# Altium footprint library PLC M3 PCB.PcbLib: 27 footprints (part 1 of 2)
Each footprint in its own frame and in the unit in brackets; x right, y up, seen from the top. Pads: shape width x height; smd on the part's side, far side on the other; paste and mask are expansions set on the pad; w line width, h text height; cw(c..) or ccw(c..) is an arc to the next point about the centre after c.
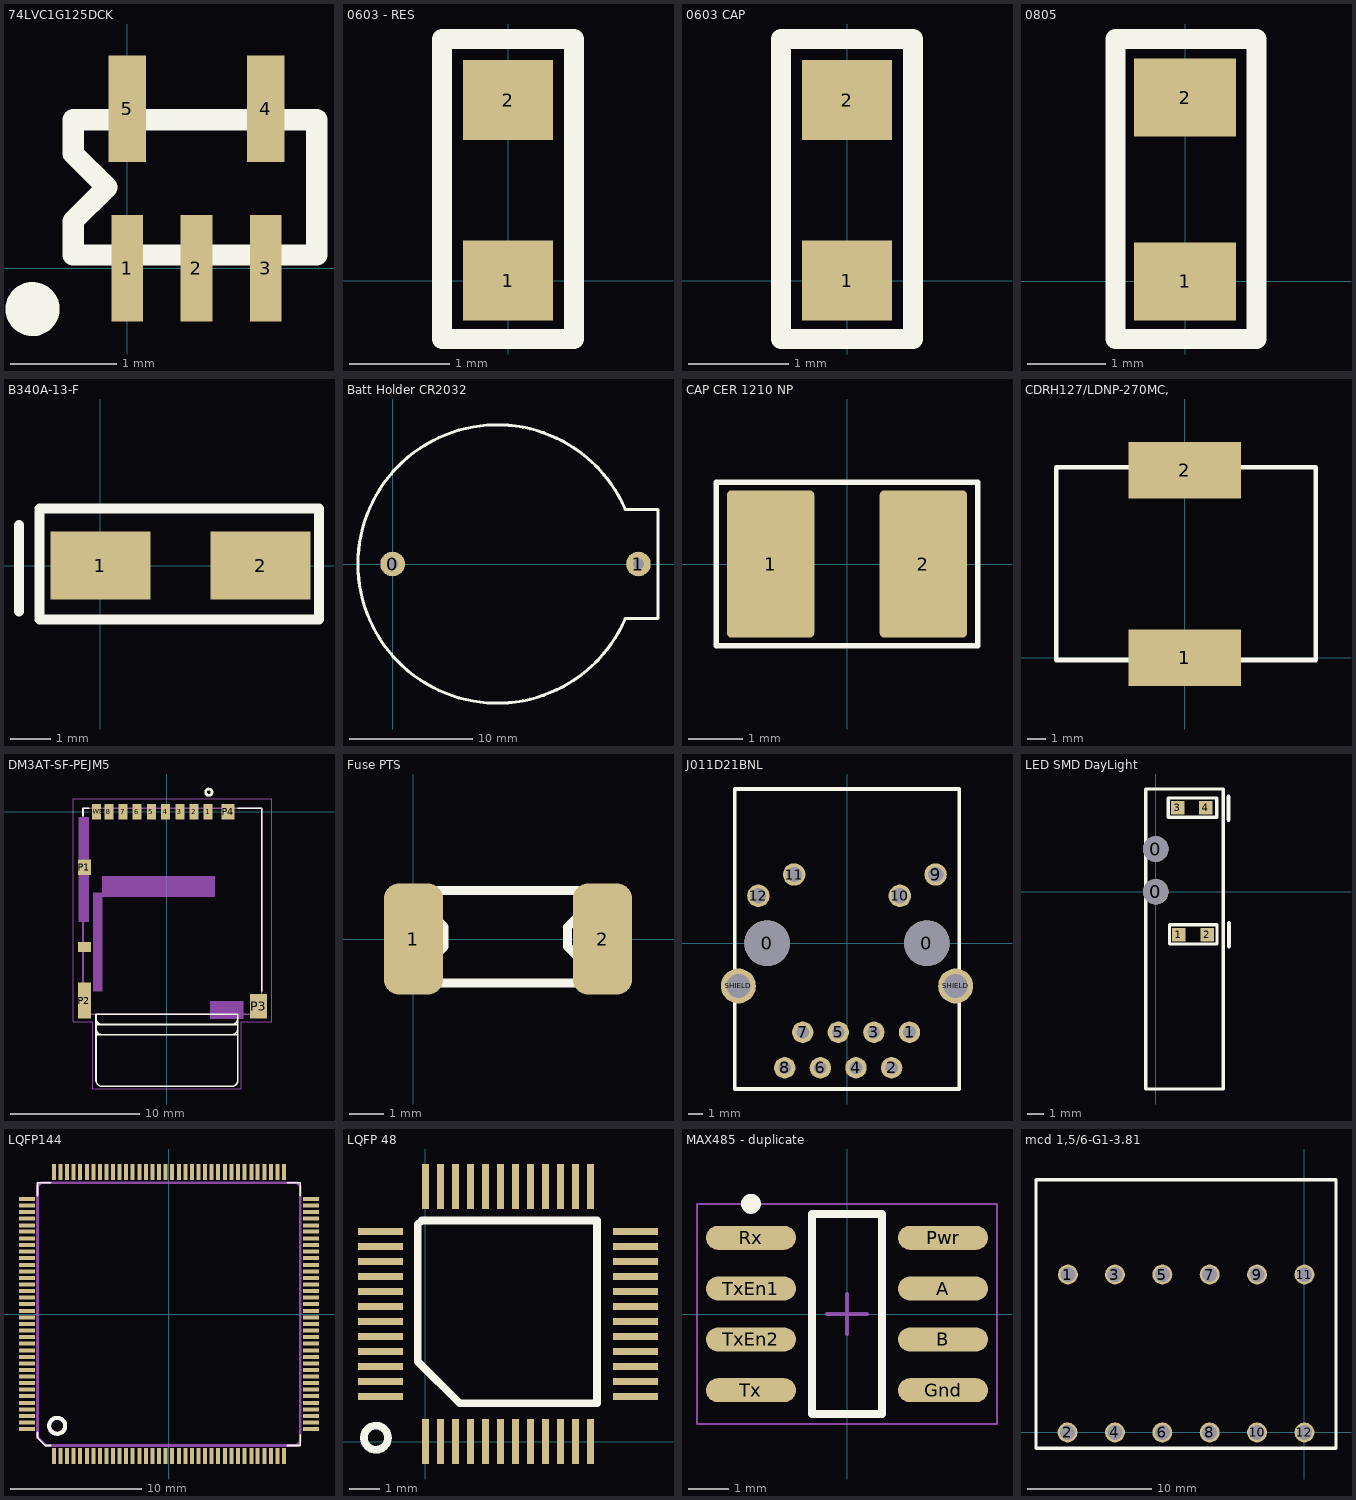
[diagram p0: the footprints below, top view; thin cyan lines are the x and y axes]

## 74LVC1G125DCK [mm]
pads (5):
  rect 0.3x1 smd mask+0: 1(0,0) 2(0.65,0) 3(1.3,0)
  rect 0.35x1 smd mask+0: 4(1.3,1.5) 5(0,1.5)
Top Overlay:
  circle w0.254: c-0.889,-0.381 r0.127
  lines w0.2: -0.508,0.127 1.778,0.127 1.778,1.397 -0.508,1.397 -0.508,1.079 -0.191,0.762 -0.508,0.445 -0.508,0.127
3D body "74LVC1G125DCKRG4.STEP": height 1.1, standoff 0, extent -0.365,-0.288 1.635,1.812

## 0603 - RES [mm]
height 1
pads (2):
  rect 0.9x0.8 smd mask+0.102: 1(0,0) 2(0,1.803)
Top Overlay:
  lines w0.2: -0.66,-0.584 -0.66,2.413 0.66,2.413 0.66,-0.584 -0.66,-0.584
3D body "RT0603FRE0710KL.STEP": height 0.55, standoff 0, extent -0.4,0.089 0.4,1.689

## 0603 CAP [mm]
height 1
pads (2):
  rect 0.9x0.8 smd mask+0.102: 1(0,0) 2(0,1.803)
Top Overlay:
  lines w0.2: -0.66,-0.584 -0.66,2.413 0.66,2.413 0.66,-0.584 -0.66,-0.584
3D body "GRM188R71E104KA01D.STEP": height 0.9, standoff 0, extent -0.4,0.089 0.4,1.689

## 0805 [mm]
height 1
pads (2):
  rect 1.3x1 smd: 1(0,0) 2(0,2.35)
Top Overlay:
  lines w0.254: -0.889,-0.737 -0.889,3.099 0.914,3.099 0.914,-0.737 -0.889,-0.737
3D body "BLM21PG220SN1D.STEP": height 1.05, standoff 0, extent -0.625,0.143 0.625,2.143

## B340A-13-F [mm]
height 2
pads (2):
  rect 2.5x1.7 smd: 1(0,0) 2(4,0)
Top Overlay:
  lines w0.254: -2.032,-1.143 -2.032,1.016 ; -1.524,-1.346 -1.524,1.422 5.461,1.422 5.461,-1.346 -1.524,-1.346
3D body "B340A-13-F.STEP": height 2.62, standoff 0, extent -0.538,-1.28 4.602,1.28

## Batt Holder CR2032 [mm]
height 5
pads (2):
  round 2 hole 0.9: 0(0,0) 1(20,0)
Top Overlay:
  lines w0.254: 18.923,-4.445 cw(c8.509,0) 18.923,4.445 21.59,4.445 21.59,-4.445 18.923,-4.445
3D body "CH224-2032LF.step": height 8.7, standoff -3.7, extent -2.541,-11.048 21.759,11.048

## CAP CER 1210 NP [mm] "Capacitor Ceramical SMD 0603 Non-Polar"
pads (2):
  rrect10% 1.6x2.7 smd mask+0.1: 1(-1.4,0) 2(1.4,0)
Top Overlay:
  lines w0.1: -2.4,-1.5 -2.4,1.5 2.4,1.5 2.4,-1.5 -2.4,-1.5
3D body "CAPC-1210-T2.2-BN.stp": height 2.2, standoff 0, extent -1.75,-1.35 1.75,1.35

## CDRH127/LDNP-270MC, [mm]
pads (2):
  rect 6x3 smd: 1(0,0) 2(0,10)
Top Overlay:
  lines w0.254: -6.858,-0.127 -6.858,10.16 6.985,10.16 6.985,-0.127 -6.858,-0.127
3D body "CDRH127LDNP220MC.STEP": height 8, standoff 0, extent -6,-1.047 6,10.953

## DM3AT-SF-PEJM5 [mm]
height 2
pads (14):
  rect 0.7x1.2 smd: 1(3.2,0) 2(2.1,0) 3(1,0) 4(-0.1,0) 5(-1.2,0) 6(-2.3,0) 7(-3.4,0) 8(-4.5,0) SWB(-5.45,0)
  rect 1x1.2 smd: P1(-6.4,-4.3) P4(4.75,0)
  rect 1x2.8 smd: P2(-6.4,-14.65)
  rect 1.3x1.9 smd: P3(7.1,-15.1)
  rect 1x0.8 smd: SWA(-6.4,-10.5)
Top Overlay:
  circle w0.2: c3.25,1.5 r0.25
  lines w0.127: -6.5,-0.3 -6.5,0.25 -6.05,0.25 ; 5.5,0.25 7.35,0.25 7.35,-13.9 ; -5.5,-17.3 -5,-17.3 ; -5.5,-17.3 -5.5,-16.8 ; -5.5,-17.3 -5.5,-20.8 ccw(c-5,-20.8) -5,-21.3 5,-21.3 ccw(c5,-20.8) 5.5,-20.8 5.5,-17.3 ; -5.5,-16.8 ccw(c-5,-16.8) -5,-17.3 ; -5.5,-16.8 -5.5,-16.5 ; -5.5,-16.5 -5,-16.5 ; -5.5,-16.5 -5.5,-16 ; -5.5,-16 ccw(c-5,-16) -5,-16.5 ; -5.5,-16 -5.5,-15.7 5.5,-15.7 5.5,-16 ; -5,-17.3 5,-17.3 ; -5,-16.5 5,-16.5 ; 5,-17.3 ccw(c5,-16.8) 5.5,-16.8 ; 5,-17.3 5.5,-17.3 ; 5,-16.5 ccw(c5,-16) 5.5,-16 ; 5,-16.5 5.5,-16.5 ; 5.5,-17.3 5.5,-16.8 ; 5.5,-16.8 5.5,-16.5 ; 5.5,-16.5 5.5,-16
Mechanical 1:
  region: -6.825,-0.45 -6.05,-0.45 -6.05,-3.714 -6.825,-3.714
  region: -6.817,-4.9 -6.05,-4.9 -6.05,-8.521 -6.817,-8.521
  region: -5.715,-6.3 -5,-6.3 -5,-13.937 -5.715,-13.937
  region: -5.008,-5 3.7,-5 3.7,-6.611 -5.008,-6.611
  region: 3.355,-14.7 5.9,-14.7 5.9,-16.072 3.355,-16.072
  lines w0.127: -6.5,-15.7 7.35,-15.7 7.35,0.25 -6.5,0.25 -6.5,-15.7
  text "PCB Edge" at -4.76,-15.783 h1.88
Mechanical 4:
  lines w0.05: -7.25,-16.3 -5.75,-16.3 -5.75,-21.5 5.75,-21.5 5.75,-16.3 8.125,-16.3 8.125,1 -7.25,1 -7.25,-16.3
3D body "DM3AT-SF-PEJM5--3DModel-STEP-1254794.STEP": height 1.68, standoff 0, extent -6.484,-16.203 7.366,-0.053

## Fuse PTS [mm]
pads (2):
  rrect50% 1.7x3.2 smd: 1(0,0) 2(5.45,0)
Top Overlay:
  lines w0.254: 0.508,-1.27 0.508,-0.603 0.889,-0.222 0.889,0.349 0.508,0.73 0.508,1.397 4.826,1.397 4.826,0.73 4.445,0.349 4.445,-0.222 4.826,-0.603 4.826,-1.27 0.508,-1.27
3D body "MF-MSMF030-2.STEP": height 0.85, standoff 0, extent 0.392,-1.62 4.942,1.62

## J011D21BNL [mm] "Ehernet Port J011D21BNL by YAGEO"
pads (16):
  round 3.25 hole 3.25 paste-2539.97 mask+0: 0(-5.7,0) 0(5.7,0)
  round 1.524 hole 0.9: 1(4.46,-6.35) 2(3.18,-8.89) 3(1.92,-6.35) 4(0.64,-8.89) 5(-0.62,-6.35) 6(-1.9,-8.89) 7(-3.16,-6.35) 8(-4.44,-8.89)
  round 1.6 hole 1.1: 9(6.32,4.9) 10(3.77,3.38) 11(-3.77,4.9) 12(-6.32,3.38)
  round 2.5 hole 1.7: SHIELD(-7.75,-3.05) SHIELD(7.75,-3.05)
Top Overlay:
  lines w0.254: -8,-10.4 8,-10.4 8,11 -8,11 -8,-10.4
3D body "J0011D21BNL.STEP": height 15.82, standoff -3.77, extent -10.7,-10.75 10.682,10.833

## LED SMD DayLight [mm]
pads (6):
  round 1.52 hole 1.52 paste+0 mask+0: 0(0,0) 0(0,2.54)
  rect 0.8x0.8 smd: 1(1.372,-2.54) 2(3.048,-2.54) 3(1.295,4.978) 4(2.972,4.978)
Top Overlay:
  lines w0.2: -0.6,1.905 -0.6,6.1 4,6.1 4,-11.7 -0.6,-11.7 -0.6,2.54 ; 0.737,4.42 3.607,4.42 3.607,5.563 0.737,5.563 0.737,4.42 ; 0.813,-3.099 3.632,-3.099 3.632,-1.956 0.813,-1.956 0.813,-3.099
  lines w0.254: 4.318,4.267 4.318,5.639 ; 4.343,-3.226 4.343,-1.854

## LQFP144 [mil] "LQFP144"
pads (144):
  rect 12x48 smd: 1(-344.49,-425.2) 2(-324.8,-425.2) 3(-305.12,-425.2) 4(-285.43,-425.2) 5(-265.75,-425.2) 6(-246.06,-425.2) 7(-226.38,-425.2) 8(-206.69,-425.2) 9(-187.01,-425.2) 10(-167.32,-425.2) 11(-147.64,-425.2) 12(-127.95,-425.2) 13(-108.27,-425.2) 14(-88.58,-425.2) 15(-68.9,-425.2) 16(-49.21,-425.2) 17(-29.53,-425.2) 18(-9.84,-425.2) 19(10,-425.2) 20(30,-425.2) 21(50,-425.2) 22(69,-425.2) 23(89,-425.2) 24(109,-425.2) 25(128,-425.2) 26(148,-425.2) 27(168,-425.2) 28(188,-425.2) 29(207,-425.2) 30(227,-425.2) 31(247,-425.2) 32(266,-425.2) 33(286,-425.2) 34(306,-425.2) 35(325,-425.2) 36(345,-425.2) 73(345,426) 74(325,426) 75(306,426) 76(286,426) 77(266,426) 78(247,426) 79(227,426) 80(207,426) 81(188,426) 82(168,426) 83(148,426) 84(128,426) 85(109,426) 86(89,426) 87(69,426) 88(50,426) 89(30,426) 90(10,426) 91(-9.84,426) 92(-29.53,426) 93(-49.21,426) 94(-68.9,426) 95(-88.58,426) 96(-108.27,426) 97(-127.95,426) 98(-147.64,426) 99(-167.32,426) 100(-187.01,426) 101(-206.69,426) 102(-226.38,426) 103(-246.06,426) 104(-265.75,426) 105(-285.43,426) 106(-305.12,426) 107(-324.8,426) 108(-344.49,426)
  rect 48x12 smd: 37(426,-344.49) 38(426,-324.8) 39(426,-305.12) 40(426,-285.43) 41(426,-265.75) 42(426,-246.06) 43(426,-226.38) 44(426,-206.69) 45(426,-187.01) 46(426,-167.32) 47(426,-147.64) 48(426,-127.95) 49(426,-108.27) 50(426,-88.58) 51(426,-68.9) 52(426,-49.21) 53(426,-29.53) 54(426,-9.84) 55(426,10) 56(426,30) 57(426,50) 58(426,69) 59(426,89) 60(426,109) 61(426,128) 62(426,148) 63(426,168) 64(426,188) 65(426,207) 66(426,227) 67(426,247) 68(426,266) 69(426,286) 70(426,306) 71(426,325) 72(426,345) 109(-425.2,345) 110(-425.2,325) 111(-425.2,306) 112(-425.2,286) 113(-425.2,266) 114(-425.2,247) 115(-425.2,227) 116(-425.2,207) 117(-425.2,188) 118(-425.2,168) 119(-425.2,148) 120(-425.2,128) 121(-425.2,109) 122(-425.2,89) 123(-425.2,69) 124(-425.2,50) 125(-425.2,30) 126(-425.2,10) 127(-425.2,-9.84) 128(-425.2,-29.53) 129(-425.2,-49.21) 130(-425.2,-68.9) 131(-425.2,-88.58) 132(-425.2,-108.27) 133(-425.2,-127.95) 134(-425.2,-147.64) 135(-425.2,-167.32) 136(-425.2,-187.01) 137(-425.2,-206.69) 138(-425.2,-226.38) 139(-425.2,-246.06) 140(-425.2,-265.75) 141(-425.2,-285.43) 142(-425.2,-305.12) 143(-425.2,-324.8) 144(-425.2,-344.49)
Top Overlay:
  circle w12: c-334.65,-334.65 r24
  lines w5: -393.7,-354.33 -393.7,-370.08 -370.08,-393.7 -354.33,-393.7 ; -393.7,355 -393.7,394 -354.33,394 ; 355,-393.7 394,-393.7 394,-362.2 ; 355,394 394,394 394,355
Mechanical 16:
  circle w12: c-334.65,-334.65 r24
  lines w8: -393.7,-368.7 -368.7,-393.7 382,-393.7 394,-381.2 394,382 382,394 -381.2,394 -393.7,382 -393.7,-368.7
3D body "ATSAM3X8EA-AU.STEP": height 62.99, standoff 0, extent -433.07,-428.07 433.07,438.08

## LQFP 48 [mm]
height 1
pads (48):
  rect 0.24x1.5 smd: 1(0,0) 2(0.5,0) 3(1,0) 4(1.5,0) 5(2,0) 6(2.5,0) 7(3,0) 8(3.5,0) 9(4,0) 10(4.5,0) 11(5,0) 12(5.5,0) 25(5.5,8.5) 26(5,8.5) 27(4.5,8.5) 28(4,8.5) 29(3.5,8.5) 30(3,8.5) 31(2.5,8.5) 32(2,8.5) 33(1.5,8.5) 34(1,8.5) 35(0.5,8.5) 36(0,8.5)
  rect 1.5x0.24 smd: 13(7,1.5) 14(7,2) 15(7,2.5) 16(7,3) 17(7,3.5) 18(7,4) 19(7,4.5) 20(7,5) 21(7,5.5) 22(7,6) 23(7,6.5) 24(7,7) 37(-1.5,7) 38(-1.5,6.5) 39(-1.5,6) 40(-1.5,5.5) 41(-1.5,5) 42(-1.5,4.5) 43(-1.5,4) 44(-1.5,3.5) 45(-1.5,3) 46(-1.5,2.5) 47(-1.5,2) 48(-1.5,1.5)
Top Overlay:
  circle w0.254: c-1.651,0.127 r0.402
  lines w0.254: -0.254,2.667 1.143,1.27 5.715,1.27 5.715,7.366 -0.127,7.366 -0.254,7.239 -0.254,2.667
3D body "W5500--3DModel-STEP-56544.STEP": height 1.6, standoff 0, extent -1.706,-0.309 7.294,8.691

## MAX485 - duplicate [mm] "SOIC, 8-Leads, Body 4,90x3,90mm, Pitch 1,27mm, IPC Medium Density"
height 1.65
pads (8):
  oval 2.25x0.6 smd: A(2.4,0.635) B(2.4,-0.635) Gnd(2.4,-1.905) Pwr(2.4,1.905) Rx(-2.4,1.905) Tx(-2.4,-1.905) TxEn1(-2.4,0.635) TxEn2(-2.4,-0.635)
Top Overlay:
  circle w0.25: c-2.4,2.755 r0.125
  lines w0.2: -0.875,-2.5 0.875,-2.5 0.875,2.5 -0.875,2.5 -0.875,-2.5
Mechanical 15:
  lines w0.05: -3.75,-2.75 3.75,-2.75 3.75,2.75 -3.75,2.75 -3.75,-2.75
  lines w0.1: -0.5,0 0.5,0 ; 0,-0.5 0,0.5
3D body "SN65HVD32DR.STEP": height 1.75, standoff 0, extent -2.995,-2.452 2.995,2.453

## mcd 1,5/6-G1-3.81 [mm]
height 20
pads (12):
  round 1.6 hole 1.2: 1(-19.025,12.7) 2(-19.05,0) 3(-15.24,12.7) 4(-15.24,0) 5(-11.43,12.7) 6(-11.43,0) 7(-7.62,12.7) 8(-7.62,0) 9(-3.81,12.7) 10(-3.81,0) 11(0,12.7) 12(0,0)
Top Overlay:
  lines w0.254: -21.59,-1.27 -21.59,20.32 2.54,20.32 2.54,-1.27 -21.59,-1.27
3D body "pxc_184311.stp": height 22.69, standoff -3.5, extent -21.41,-1.045 2.84,20.985